# Altium schematic symbol library [TH] Трансформаторы.SchLib: 2 symbols
Pins are listed as number, name and electrical type; pins without a type are passive.

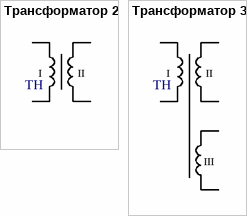
[diagram p0: symbols Трансформатор 2 to Трансформатор 3]

## Трансформатор 2
designator TH
footprint Трансформатор 2
pins: 1, 2, 3 2, 4 1
text: I; II

## Трансформатор 3
designator TH
pins: 1, 2, 3 2, 3 2, 4 1, 4 1
text: I; II; III